# Altium schematic symbol library Joystick.SchLib: 1 symbol
Pins are listed as number, name and electrical type; pins without a type are passive.

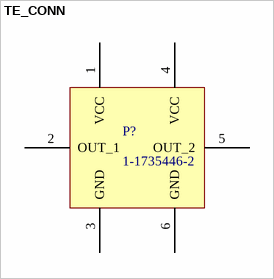
[diagram p0: symbol TE_CONN]

## TE_CONN
designator P?, comment 1-1735446-2
TE Connectivity AMP Connector
pins: 1 VCC (power), 2 OUT_1, 3 GND (power), 4 VCC (power), 5 OUT_2, 6 GND (power)